# Altium footprint library 排针-排母.PcbLib: 215 footprints (part 6 of 14)
Each footprint in its own frame and in the unit in brackets; x right, y up, seen from the top. Pads: shape width x height; smd on the part's side, far side on the other; paste and mask are expansions set on the pad; w line width, h text height; cw(c..) or ccw(c..) is an arc to the next point about the centre after c.
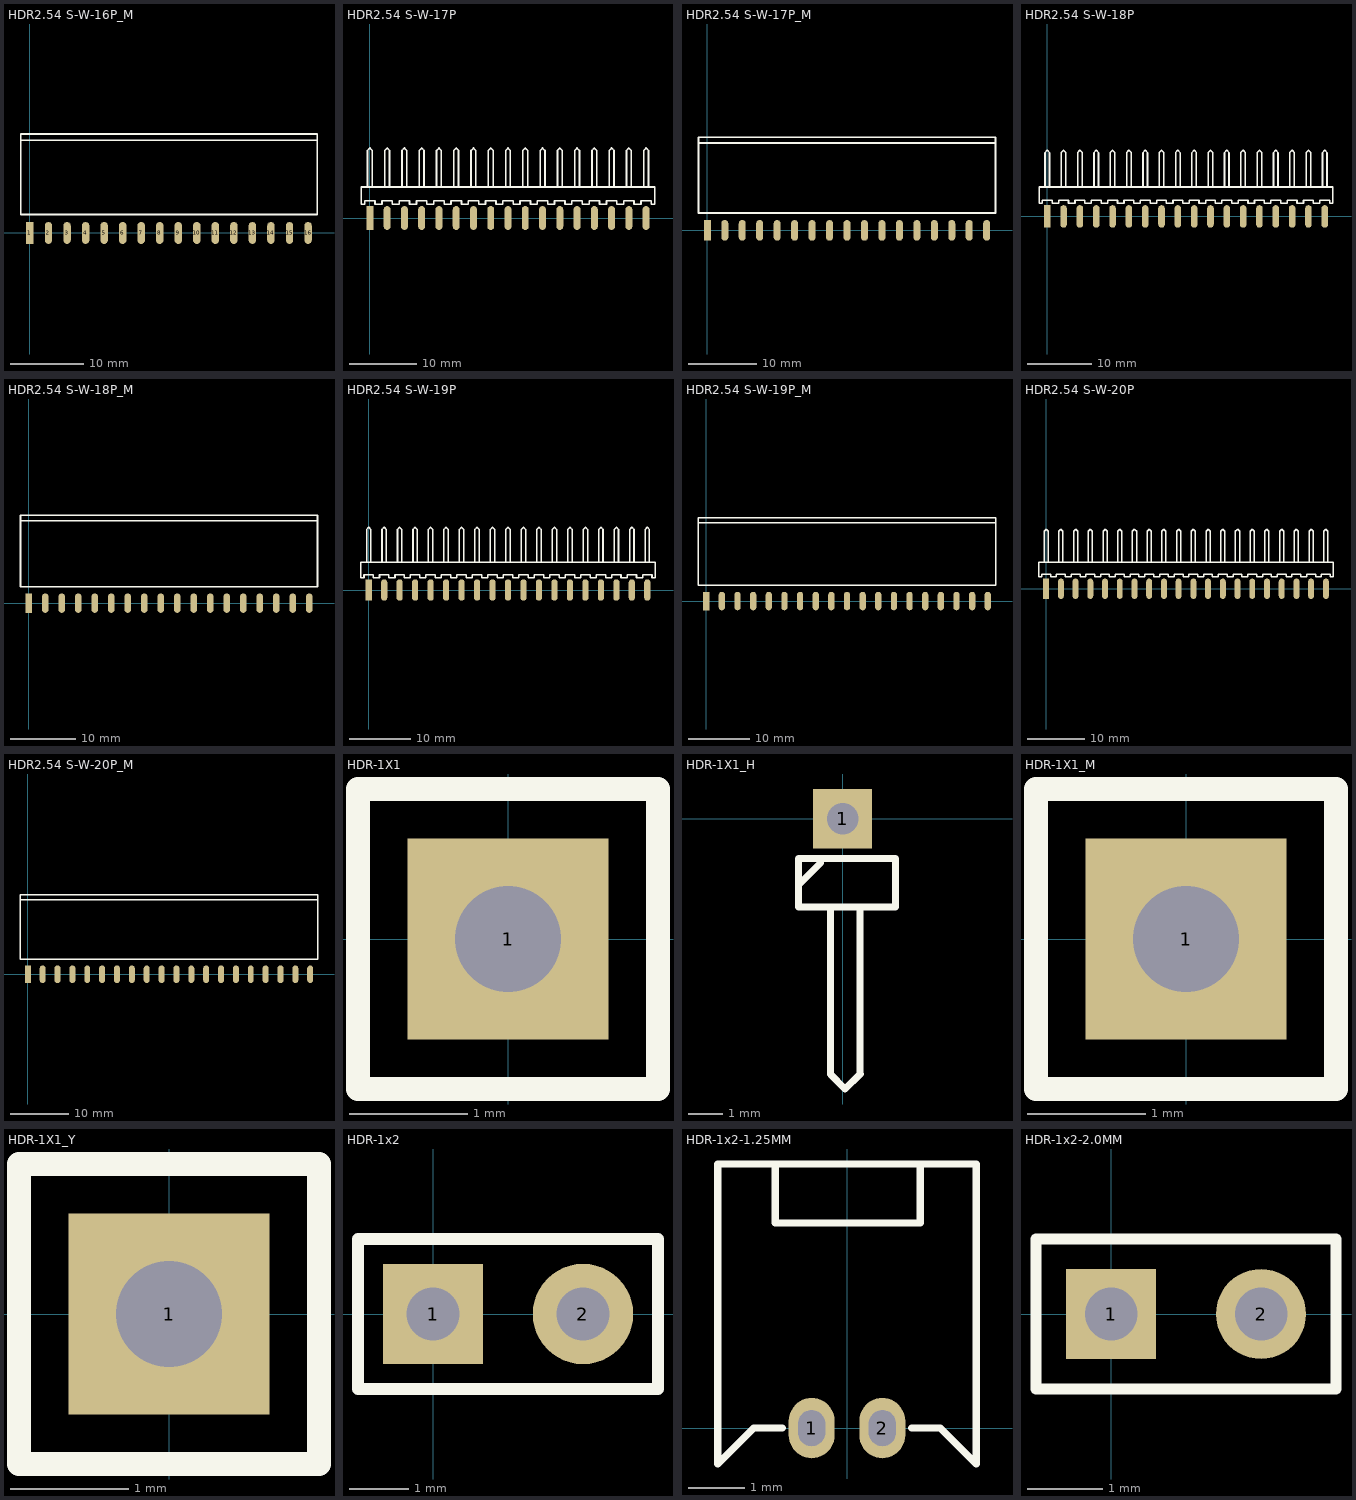
[diagram p5: the footprints below, top view; thin cyan lines are the x and y axes]

## HDR2.54 S-W-16P_M [mm] "16P卧式贴片排母2.54"
pads (16):
  rect 1.02x3 smd: 1(0,0)
  oval 1.02x3 smd: 2(2.54,0) 3(5.08,0) 4(7.62,0) 5(10.16,0) 6(12.7,0) 7(15.24,0) 8(17.78,0) 9(20.32,0) 10(22.86,0) 11(25.4,0) 12(27.94,0) 13(30.48,0) 14(33.02,0) 15(35.56,0) 16(38.1,0)
Top Overlay:
  lines w0.254: -1.27,12.7 1.27,12.7 3.81,12.7 6.35,12.7 8.89,12.7 11.43,12.7 13.97,12.7 16.51,12.7 19.05,12.7 21.59,12.7 24.13,12.7 26.67,12.7 29.21,12.7 31.75,12.7 34.29,12.7 36.83,12.7 39.37,12.7 ; -1.27,2.54 -1.27,13.54 1.27,13.54 3.81,13.54 6.35,13.54 8.89,13.54 11.43,13.54 13.97,13.54 16.51,13.54 19.05,13.54 21.59,13.54 24.13,13.54 26.67,13.54 29.21,13.54 31.75,13.54 34.29,13.54 36.83,13.54 39.37,13.54 39.37,2.54 36.83,2.54 34.29,2.54 31.75,2.54 29.21,2.54 26.67,2.54 24.13,2.54 21.59,2.54 19.05,2.54 16.51,2.54 13.97,2.54 11.43,2.54 8.89,2.54 6.35,2.54 3.81,2.54 1.27,2.54 -1.27,2.54
3D body "HDR2.54 S-W-1P_M.STEP": height 2.54, standoff -0.01, extent 13.97,-0.43 16.51,13.54
3D body "HDR2.54 S-W-1P_M.STEP": height 2.54, standoff -0.01, extent 11.43,-0.43 13.97,13.54
3D body "HDR2.54 S-W-1P_M.STEP": height 2.54, standoff -0.01, extent 8.89,-0.43 11.43,13.54
3D body "HDR2.54 S-W-1P_M.STEP": height 2.54, standoff -0.01, extent 6.35,-0.43 8.89,13.54
3D body "HDR2.54 S-W-1P_M.STEP": height 2.54, standoff -0.01, extent 3.81,-0.43 6.35,13.54
3D body "HDR2.54 S-W-1P_M.STEP": height 2.54, standoff -0.01, extent 1.27,-0.43 3.81,13.54
3D body "HDR2.54 S-W-1P_M.STEP": height 2.54, standoff -0.01, extent -1.27,-0.43 1.27,13.54
3D body "HDR2.54 S-W-1P_M.STEP": height 2.54, standoff -0.01, extent 16.51,-0.43 19.05,13.54
3D body "HDR2.54 S-W-1P_M.STEP": height 2.54, standoff -0.01, extent 19.05,-0.43 21.59,13.54
3D body "HDR2.54 S-W-1P_M.STEP": height 2.54, standoff -0.01, extent 21.59,-0.43 24.13,13.54
3D body "HDR2.54 S-W-1P_M.STEP": height 2.54, standoff -0.01, extent 24.13,-0.43 26.67,13.54
3D body "HDR2.54 S-W-1P_M.STEP": height 2.54, standoff -0.01, extent 26.67,-0.43 29.21,13.54
3D body "HDR2.54 S-W-1P_M.STEP": height 2.54, standoff -0.01, extent 29.21,-0.43 31.75,13.54
3D body "HDR2.54 S-W-1P_M.STEP": height 2.54, standoff -0.01, extent 31.75,-0.43 34.29,13.54
3D body "HDR2.54 S-W-1P_M.STEP": height 2.54, standoff -0.01, extent 34.29,-0.43 36.83,13.54
3D body "HDR2.54 S-W-1P_M.STEP": height 2.54, standoff -0.01, extent 36.83,-0.43 39.37,13.54

## HDR2.54 S-W-17P [mm] "17P卧式贴片排针2.54"
pads (17):
  rect 1.02x3.5 smd: 1(0,0)
  oval 1.02x3.5 smd: 2(2.54,0) 3(5.08,0) 4(7.62,0) 5(10.16,0) 6(12.7,0) 7(15.24,0) 8(17.78,0) 9(20.32,0) 10(22.86,0) 11(25.4,0) 12(27.94,0) 13(30.48,0) 14(33.02,0) 15(35.56,0) 16(38.1,0) 17(40.64,0)
Top Overlay:
  drawing of 223 lines, arcs and shapes, not listed
3D body "HDR2.54 S-W-1P.STEP": height 2.54, standoff -0.01, extent 31.75,-0.76 34.29,10.34
3D body "HDR2.54 S-W-1P.STEP": height 2.54, standoff -0.01, extent 8.89,-0.76 11.43,10.34
3D body "HDR2.54 S-W-1P.STEP": height 2.54, standoff -0.01, extent 6.35,-0.76 8.89,10.34
3D body "HDR2.54 S-W-1P.STEP": height 2.54, standoff -0.01, extent 3.81,-0.76 6.35,10.34
3D body "HDR2.54 S-W-1P.STEP": height 2.54, standoff -0.01, extent 1.27,-0.76 3.81,10.34
3D body "HDR2.54 S-W-1P.STEP": height 2.54, standoff -0.01, extent -1.27,-0.76 1.27,10.34
3D body "HDR2.54 S-W-1P.STEP": height 2.54, standoff -0.01, extent 11.43,-0.76 13.97,10.34
3D body "HDR2.54 S-W-1P.STEP": height 2.54, standoff -0.01, extent 13.97,-0.76 16.51,10.34
3D body "HDR2.54 S-W-1P.STEP": height 2.54, standoff -0.01, extent 16.51,-0.76 19.05,10.34
3D body "HDR2.54 S-W-1P.STEP": height 2.54, standoff -0.01, extent 19.05,-0.76 21.59,10.34
3D body "HDR2.54 S-W-1P.STEP": height 2.54, standoff -0.01, extent 21.59,-0.76 24.13,10.34
3D body "HDR2.54 S-W-1P.STEP": height 2.54, standoff -0.01, extent 24.13,-0.76 26.67,10.34
3D body "HDR2.54 S-W-1P.STEP": height 2.54, standoff -0.01, extent 26.67,-0.76 29.21,10.34
3D body "HDR2.54 S-W-1P.STEP": height 2.54, standoff -0.01, extent 29.21,-0.76 31.75,10.34
3D body "HDR2.54 S-W-1P.STEP": height 2.54, standoff -0.01, extent 34.29,-0.76 36.83,10.34
3D body "HDR2.54 S-W-1P.STEP": height 2.54, standoff -0.01, extent 36.83,-0.76 39.37,10.34
3D body "HDR2.54 S-W-1P.STEP": height 2.54, standoff -0.01, extent 39.37,-0.76 41.91,10.34

## HDR2.54 S-W-17P_M [mm] "17P卧式贴片排母2.54"
pads (17):
  rect 1.02x3 smd: 1(0,0)
  oval 1.02x3 smd: 2(2.54,0) 3(5.08,0) 4(7.62,0) 5(10.16,0) 6(12.7,0) 7(15.24,0) 8(17.78,0) 9(20.32,0) 10(22.86,0) 11(25.4,0) 12(27.94,0) 13(30.48,0) 14(33.02,0) 15(35.56,0) 16(38.1,0) 17(40.64,0)
Top Overlay:
  lines w0.254: -1.27,12.7 1.27,12.7 3.81,12.7 6.35,12.7 8.89,12.7 11.43,12.7 13.97,12.7 16.51,12.7 19.05,12.7 21.59,12.7 24.13,12.7 26.67,12.7 29.21,12.7 31.75,12.7 34.29,12.7 36.83,12.7 39.37,12.7 41.91,12.7 ; -1.27,2.54 -1.27,13.54 1.27,13.54 3.81,13.54 6.35,13.54 8.89,13.54 11.43,13.54 13.97,13.54 16.51,13.54 19.05,13.54 21.59,13.54 24.13,13.54 26.67,13.54 29.21,13.54 31.75,13.54 34.29,13.54 36.83,13.54 39.37,13.54 41.91,13.54 41.91,2.54 39.37,2.54 36.83,2.54 34.29,2.54 31.75,2.54 29.21,2.54 26.67,2.54 24.13,2.54 21.59,2.54 19.05,2.54 16.51,2.54 13.97,2.54 11.43,2.54 8.89,2.54 6.35,2.54 3.81,2.54 1.27,2.54 -1.27,2.54
3D body "HDR2.54 S-W-1P_M.STEP": height 2.54, standoff -0.01, extent 13.97,-0.43 16.51,13.54
3D body "HDR2.54 S-W-1P_M.STEP": height 2.54, standoff -0.01, extent 11.43,-0.43 13.97,13.54
3D body "HDR2.54 S-W-1P_M.STEP": height 2.54, standoff -0.01, extent 8.89,-0.43 11.43,13.54
3D body "HDR2.54 S-W-1P_M.STEP": height 2.54, standoff -0.01, extent 6.35,-0.43 8.89,13.54
3D body "HDR2.54 S-W-1P_M.STEP": height 2.54, standoff -0.01, extent 3.81,-0.43 6.35,13.54
3D body "HDR2.54 S-W-1P_M.STEP": height 2.54, standoff -0.01, extent 1.27,-0.43 3.81,13.54
3D body "HDR2.54 S-W-1P_M.STEP": height 2.54, standoff -0.01, extent -1.27,-0.43 1.27,13.54
3D body "HDR2.54 S-W-1P_M.STEP": height 2.54, standoff -0.01, extent 16.51,-0.43 19.05,13.54
3D body "HDR2.54 S-W-1P_M.STEP": height 2.54, standoff -0.01, extent 19.05,-0.43 21.59,13.54
3D body "HDR2.54 S-W-1P_M.STEP": height 2.54, standoff -0.01, extent 21.59,-0.43 24.13,13.54
3D body "HDR2.54 S-W-1P_M.STEP": height 2.54, standoff -0.01, extent 24.13,-0.43 26.67,13.54
3D body "HDR2.54 S-W-1P_M.STEP": height 2.54, standoff -0.01, extent 26.67,-0.43 29.21,13.54
3D body "HDR2.54 S-W-1P_M.STEP": height 2.54, standoff -0.01, extent 29.21,-0.43 31.75,13.54
3D body "HDR2.54 S-W-1P_M.STEP": height 2.54, standoff -0.01, extent 31.75,-0.43 34.29,13.54
3D body "HDR2.54 S-W-1P_M.STEP": height 2.54, standoff -0.01, extent 34.29,-0.43 36.83,13.54
3D body "HDR2.54 S-W-1P_M.STEP": height 2.54, standoff -0.01, extent 36.83,-0.43 39.37,13.54
3D body "HDR2.54 S-W-1P_M.STEP": height 2.54, standoff -0.01, extent 39.37,-0.43 41.91,13.54

## HDR2.54 S-W-18P [mm] "18P卧式贴片排针2.54"
pads (18):
  rect 1.02x3.5 smd: 1(0,0)
  oval 1.02x3.5 smd: 2(2.54,0) 3(5.08,0) 4(7.62,0) 5(10.16,0) 6(12.7,0) 7(15.24,0) 8(17.78,0) 9(20.32,0) 10(22.86,0) 11(25.4,0) 12(27.94,0) 13(30.48,0) 14(33.02,0) 15(35.56,0) 16(38.1,0) 17(40.64,0) 18(43.18,0)
Top Overlay:
  drawing of 236 lines, arcs and shapes, not listed
3D body "HDR2.54 S-W-1P.STEP": height 2.54, standoff -0.01, extent 41.91,-0.76 44.45,10.34
3D body "HDR2.54 S-W-1P.STEP": height 2.54, standoff -0.01, extent 39.37,-0.76 41.91,10.34
3D body "HDR2.54 S-W-1P.STEP": height 2.54, standoff -0.01, extent 36.83,-0.76 39.37,10.34
3D body "HDR2.54 S-W-1P.STEP": height 2.54, standoff -0.01, extent 34.29,-0.76 36.83,10.34
3D body "HDR2.54 S-W-1P.STEP": height 2.54, standoff -0.01, extent 29.21,-0.76 31.75,10.34
3D body "HDR2.54 S-W-1P.STEP": height 2.54, standoff -0.01, extent 26.67,-0.76 29.21,10.34
3D body "HDR2.54 S-W-1P.STEP": height 2.54, standoff -0.01, extent 24.13,-0.76 26.67,10.34
3D body "HDR2.54 S-W-1P.STEP": height 2.54, standoff -0.01, extent 21.59,-0.76 24.13,10.34
3D body "HDR2.54 S-W-1P.STEP": height 2.54, standoff -0.01, extent 19.05,-0.76 21.59,10.34
3D body "HDR2.54 S-W-1P.STEP": height 2.54, standoff -0.01, extent 16.51,-0.76 19.05,10.34
3D body "HDR2.54 S-W-1P.STEP": height 2.54, standoff -0.01, extent 13.97,-0.76 16.51,10.34
3D body "HDR2.54 S-W-1P.STEP": height 2.54, standoff -0.01, extent 11.43,-0.76 13.97,10.34
3D body "HDR2.54 S-W-1P.STEP": height 2.54, standoff -0.01, extent -1.27,-0.76 1.27,10.34
3D body "HDR2.54 S-W-1P.STEP": height 2.54, standoff -0.01, extent 1.27,-0.76 3.81,10.34
3D body "HDR2.54 S-W-1P.STEP": height 2.54, standoff -0.01, extent 3.81,-0.76 6.35,10.34
3D body "HDR2.54 S-W-1P.STEP": height 2.54, standoff -0.01, extent 6.35,-0.76 8.89,10.34
3D body "HDR2.54 S-W-1P.STEP": height 2.54, standoff -0.01, extent 8.89,-0.76 11.43,10.34
3D body "HDR2.54 S-W-1P.STEP": height 2.54, standoff -0.01, extent 31.75,-0.76 34.29,10.34

## HDR2.54 S-W-18P_M [mm] "18P卧式贴片排母2.54"
pads (18):
  rect 1.02x3 smd: 1(0,0)
  oval 1.02x3 smd: 2(2.54,0) 3(5.08,0) 4(7.62,0) 5(10.16,0) 6(12.7,0) 7(15.24,0) 8(17.78,0) 9(20.32,0) 10(22.86,0) 11(25.4,0) 12(27.94,0) 13(30.48,0) 14(33.02,0) 15(35.56,0) 16(38.1,0) 17(40.64,0) 18(43.18,0)
Top Overlay:
  lines w0.254: -1.27,12.7 1.27,12.7 3.81,12.7 6.35,12.7 8.89,12.7 11.43,12.7 13.97,12.7 16.51,12.7 19.05,12.7 21.59,12.7 24.13,12.7 26.67,12.7 29.21,12.7 31.75,12.7 34.29,12.7 36.83,12.7 39.37,12.7 41.91,12.7 44.45,12.7 ; -1.27,2.54 1.27,2.54 3.81,2.54 6.35,2.54 8.89,2.54 11.43,2.54 13.97,2.54 16.51,2.54 19.05,2.54 21.59,2.54 24.13,2.54 26.67,2.54 29.21,2.54 31.75,2.54 34.29,2.54 36.83,2.54 39.37,2.54 41.91,2.54 44.45,2.54 44.45,13.54 41.91,13.54 39.37,13.54 36.83,13.54 34.29,13.54 31.75,13.54 29.21,13.54 26.67,13.54 24.13,13.54 21.59,13.54 19.05,13.54 16.51,13.54 13.97,13.54 11.43,13.54 8.89,13.54 6.35,13.54 3.81,13.54 1.27,13.54 -1.27,13.54 -1.27,2.54
3D body "HDR2.54 S-W-1P_M.STEP": height 2.54, standoff -0.01, extent 41.91,-0.43 44.45,13.54
3D body "HDR2.54 S-W-1P_M.STEP": height 2.54, standoff -0.01, extent 39.37,-0.43 41.91,13.54
3D body "HDR2.54 S-W-1P_M.STEP": height 2.54, standoff -0.01, extent 36.83,-0.43 39.37,13.54
3D body "HDR2.54 S-W-1P_M.STEP": height 2.54, standoff -0.01, extent 34.29,-0.43 36.83,13.54
3D body "HDR2.54 S-W-1P_M.STEP": height 2.54, standoff -0.01, extent 31.75,-0.43 34.29,13.54
3D body "HDR2.54 S-W-1P_M.STEP": height 2.54, standoff -0.01, extent 29.21,-0.43 31.75,13.54
3D body "HDR2.54 S-W-1P_M.STEP": height 2.54, standoff -0.01, extent 26.67,-0.43 29.21,13.54
3D body "HDR2.54 S-W-1P_M.STEP": height 2.54, standoff -0.01, extent 24.13,-0.43 26.67,13.54
3D body "HDR2.54 S-W-1P_M.STEP": height 2.54, standoff -0.01, extent 21.59,-0.43 24.13,13.54
3D body "HDR2.54 S-W-1P_M.STEP": height 2.54, standoff -0.01, extent 19.05,-0.43 21.59,13.54
3D body "HDR2.54 S-W-1P_M.STEP": height 2.54, standoff -0.01, extent 16.51,-0.43 19.05,13.54
3D body "HDR2.54 S-W-1P_M.STEP": height 2.54, standoff -0.01, extent -1.27,-0.43 1.27,13.54
3D body "HDR2.54 S-W-1P_M.STEP": height 2.54, standoff -0.01, extent 1.27,-0.43 3.81,13.54
3D body "HDR2.54 S-W-1P_M.STEP": height 2.54, standoff -0.01, extent 3.81,-0.43 6.35,13.54
3D body "HDR2.54 S-W-1P_M.STEP": height 2.54, standoff -0.01, extent 6.35,-0.43 8.89,13.54
3D body "HDR2.54 S-W-1P_M.STEP": height 2.54, standoff -0.01, extent 8.89,-0.43 11.43,13.54
3D body "HDR2.54 S-W-1P_M.STEP": height 2.54, standoff -0.01, extent 11.43,-0.43 13.97,13.54
3D body "HDR2.54 S-W-1P_M.STEP": height 2.54, standoff -0.01, extent 13.97,-0.43 16.51,13.54

## HDR2.54 S-W-19P [mm] "19P卧式贴片排针2.54"
pads (19):
  rect 1.02x3.5 smd: 1(0,0)
  oval 1.02x3.5 smd: 2(2.54,0) 3(5.08,0) 4(7.62,0) 5(10.16,0) 6(12.7,0) 7(15.24,0) 8(17.78,0) 9(20.32,0) 10(22.86,0) 11(25.4,0) 12(27.94,0) 13(30.48,0) 14(33.02,0) 15(35.56,0) 16(38.1,0) 17(40.64,0) 18(43.18,0) 19(45.72,0)
Top Overlay:
  drawing of 249 lines, arcs and shapes, not listed
3D body "HDR2.54 S-W-1P.STEP": height 2.54, standoff -0.01, extent 31.75,-0.76 34.29,10.34
3D body "HDR2.54 S-W-1P.STEP": height 2.54, standoff -0.01, extent 8.89,-0.76 11.43,10.34
3D body "HDR2.54 S-W-1P.STEP": height 2.54, standoff -0.01, extent 6.35,-0.76 8.89,10.34
3D body "HDR2.54 S-W-1P.STEP": height 2.54, standoff -0.01, extent 3.81,-0.76 6.35,10.34
3D body "HDR2.54 S-W-1P.STEP": height 2.54, standoff -0.01, extent 1.27,-0.76 3.81,10.34
3D body "HDR2.54 S-W-1P.STEP": height 2.54, standoff -0.01, extent -1.27,-0.76 1.27,10.34
3D body "HDR2.54 S-W-1P.STEP": height 2.54, standoff -0.01, extent 11.43,-0.76 13.97,10.34
3D body "HDR2.54 S-W-1P.STEP": height 2.54, standoff -0.01, extent 13.97,-0.76 16.51,10.34
3D body "HDR2.54 S-W-1P.STEP": height 2.54, standoff -0.01, extent 16.51,-0.76 19.05,10.34
3D body "HDR2.54 S-W-1P.STEP": height 2.54, standoff -0.01, extent 19.05,-0.76 21.59,10.34
3D body "HDR2.54 S-W-1P.STEP": height 2.54, standoff -0.01, extent 21.59,-0.76 24.13,10.34
3D body "HDR2.54 S-W-1P.STEP": height 2.54, standoff -0.01, extent 24.13,-0.76 26.67,10.34
3D body "HDR2.54 S-W-1P.STEP": height 2.54, standoff -0.01, extent 26.67,-0.76 29.21,10.34
3D body "HDR2.54 S-W-1P.STEP": height 2.54, standoff -0.01, extent 29.21,-0.76 31.75,10.34
3D body "HDR2.54 S-W-1P.STEP": height 2.54, standoff -0.01, extent 34.29,-0.76 36.83,10.34
3D body "HDR2.54 S-W-1P.STEP": height 2.54, standoff -0.01, extent 36.83,-0.76 39.37,10.34
3D body "HDR2.54 S-W-1P.STEP": height 2.54, standoff -0.01, extent 39.37,-0.76 41.91,10.34
3D body "HDR2.54 S-W-1P.STEP": height 2.54, standoff -0.01, extent 41.91,-0.76 44.45,10.34
3D body "HDR2.54 S-W-1P.STEP": height 2.54, standoff -0.01, extent 44.45,-0.76 46.99,10.34

## HDR2.54 S-W-19P_M [mm] "19P卧式贴片排母2.54"
pads (19):
  rect 1.02x3 smd: 1(0,0)
  oval 1.02x3 smd: 2(2.54,0) 3(5.08,0) 4(7.62,0) 5(10.16,0) 6(12.7,0) 7(15.24,0) 8(17.78,0) 9(20.32,0) 10(22.86,0) 11(25.4,0) 12(27.94,0) 13(30.48,0) 14(33.02,0) 15(35.56,0) 16(38.1,0) 17(40.64,0) 18(43.18,0) 19(45.72,0)
Top Overlay:
  lines w0.254: -1.27,12.7 1.27,12.7 3.81,12.7 6.35,12.7 8.89,12.7 11.43,12.7 13.97,12.7 16.51,12.7 19.05,12.7 21.59,12.7 24.13,12.7 26.67,12.7 29.21,12.7 31.75,12.7 34.29,12.7 36.83,12.7 39.37,12.7 41.91,12.7 44.45,12.7 46.99,12.7 ; -1.27,2.54 -1.27,13.54 1.27,13.54 3.81,13.54 6.35,13.54 8.89,13.54 11.43,13.54 13.97,13.54 16.51,13.54 19.05,13.54 21.59,13.54 24.13,13.54 26.67,13.54 29.21,13.54 31.75,13.54 34.29,13.54 36.83,13.54 39.37,13.54 41.91,13.54 44.45,13.54 46.99,13.54 46.99,2.54 44.45,2.54 41.91,2.54 39.37,2.54 36.83,2.54 34.29,2.54 31.75,2.54 29.21,2.54 26.67,2.54 24.13,2.54 21.59,2.54 19.05,2.54 16.51,2.54 13.97,2.54 11.43,2.54 8.89,2.54 6.35,2.54 3.81,2.54 1.27,2.54 -1.27,2.54
3D body "HDR2.54 S-W-1P_M.STEP": height 2.54, standoff -0.01, extent 13.97,-0.43 16.51,13.54
3D body "HDR2.54 S-W-1P_M.STEP": height 2.54, standoff -0.01, extent 11.43,-0.43 13.97,13.54
3D body "HDR2.54 S-W-1P_M.STEP": height 2.54, standoff -0.01, extent 8.89,-0.43 11.43,13.54
3D body "HDR2.54 S-W-1P_M.STEP": height 2.54, standoff -0.01, extent 6.35,-0.43 8.89,13.54
3D body "HDR2.54 S-W-1P_M.STEP": height 2.54, standoff -0.01, extent 3.81,-0.43 6.35,13.54
3D body "HDR2.54 S-W-1P_M.STEP": height 2.54, standoff -0.01, extent 1.27,-0.43 3.81,13.54
3D body "HDR2.54 S-W-1P_M.STEP": height 2.54, standoff -0.01, extent -1.27,-0.43 1.27,13.54
3D body "HDR2.54 S-W-1P_M.STEP": height 2.54, standoff -0.01, extent 16.51,-0.43 19.05,13.54
3D body "HDR2.54 S-W-1P_M.STEP": height 2.54, standoff -0.01, extent 19.05,-0.43 21.59,13.54
3D body "HDR2.54 S-W-1P_M.STEP": height 2.54, standoff -0.01, extent 21.59,-0.43 24.13,13.54
3D body "HDR2.54 S-W-1P_M.STEP": height 2.54, standoff -0.01, extent 24.13,-0.43 26.67,13.54
3D body "HDR2.54 S-W-1P_M.STEP": height 2.54, standoff -0.01, extent 26.67,-0.43 29.21,13.54
3D body "HDR2.54 S-W-1P_M.STEP": height 2.54, standoff -0.01, extent 29.21,-0.43 31.75,13.54
3D body "HDR2.54 S-W-1P_M.STEP": height 2.54, standoff -0.01, extent 31.75,-0.43 34.29,13.54
3D body "HDR2.54 S-W-1P_M.STEP": height 2.54, standoff -0.01, extent 34.29,-0.43 36.83,13.54
3D body "HDR2.54 S-W-1P_M.STEP": height 2.54, standoff -0.01, extent 36.83,-0.43 39.37,13.54
3D body "HDR2.54 S-W-1P_M.STEP": height 2.54, standoff -0.01, extent 39.37,-0.43 41.91,13.54
3D body "HDR2.54 S-W-1P_M.STEP": height 2.54, standoff -0.01, extent 41.91,-0.43 44.45,13.54
3D body "HDR2.54 S-W-1P_M.STEP": height 2.54, standoff -0.01, extent 44.45,-0.43 46.99,13.54

## HDR2.54 S-W-20P [mm] "20P卧式贴片排针2.54"
pads (20):
  rect 1.02x3.5 smd: 1(0,0)
  oval 1.02x3.5 smd: 2(2.54,0) 3(5.08,0) 4(7.62,0) 5(10.16,0) 6(12.7,0) 7(15.24,0) 8(17.78,0) 9(20.32,0) 10(22.86,0) 11(25.4,0) 12(27.94,0) 13(30.48,0) 14(33.02,0) 15(35.56,0) 16(38.1,0) 17(40.64,0) 18(43.18,0) 19(45.72,0) 20(48.26,0)
Top Overlay:
  drawing of 262 lines, arcs and shapes, not listed
3D body "HDR2.54 S-W-1P.STEP": height 2.54, standoff -0.01, extent 44.45,-0.76 46.99,10.34
3D body "HDR2.54 S-W-1P.STEP": height 2.54, standoff -0.01, extent 41.91,-0.76 44.45,10.34
3D body "HDR2.54 S-W-1P.STEP": height 2.54, standoff -0.01, extent 39.37,-0.76 41.91,10.34
3D body "HDR2.54 S-W-1P.STEP": height 2.54, standoff -0.01, extent 36.83,-0.76 39.37,10.34
3D body "HDR2.54 S-W-1P.STEP": height 2.54, standoff -0.01, extent 34.29,-0.76 36.83,10.34
3D body "HDR2.54 S-W-1P.STEP": height 2.54, standoff -0.01, extent 29.21,-0.76 31.75,10.34
3D body "HDR2.54 S-W-1P.STEP": height 2.54, standoff -0.01, extent 26.67,-0.76 29.21,10.34
3D body "HDR2.54 S-W-1P.STEP": height 2.54, standoff -0.01, extent 24.13,-0.76 26.67,10.34
3D body "HDR2.54 S-W-1P.STEP": height 2.54, standoff -0.01, extent 21.59,-0.76 24.13,10.34
3D body "HDR2.54 S-W-1P.STEP": height 2.54, standoff -0.01, extent 19.05,-0.76 21.59,10.34
3D body "HDR2.54 S-W-1P.STEP": height 2.54, standoff -0.01, extent 16.51,-0.76 19.05,10.34
3D body "HDR2.54 S-W-1P.STEP": height 2.54, standoff -0.01, extent 13.97,-0.76 16.51,10.34
3D body "HDR2.54 S-W-1P.STEP": height 2.54, standoff -0.01, extent 11.43,-0.76 13.97,10.34
3D body "HDR2.54 S-W-1P.STEP": height 2.54, standoff -0.01, extent -1.27,-0.76 1.27,10.34
3D body "HDR2.54 S-W-1P.STEP": height 2.54, standoff -0.01, extent 1.27,-0.76 3.81,10.34
3D body "HDR2.54 S-W-1P.STEP": height 2.54, standoff -0.01, extent 3.81,-0.76 6.35,10.34
3D body "HDR2.54 S-W-1P.STEP": height 2.54, standoff -0.01, extent 6.35,-0.76 8.89,10.34
3D body "HDR2.54 S-W-1P.STEP": height 2.54, standoff -0.01, extent 8.89,-0.76 11.43,10.34
3D body "HDR2.54 S-W-1P.STEP": height 2.54, standoff -0.01, extent 31.75,-0.76 34.29,10.34
3D body "HDR2.54 S-W-1P.STEP": height 2.54, standoff -0.01, extent 46.99,-0.76 49.53,10.34

## HDR2.54 S-W-20P_M [mm] "20P卧式贴片排母2.54"
pads (20):
  rect 1.02x3 smd: 1(0,0)
  oval 1.02x3 smd: 2(2.54,0) 3(5.08,0) 4(7.62,0) 5(10.16,0) 6(12.7,0) 7(15.24,0) 8(17.78,0) 9(20.32,0) 10(22.86,0) 11(25.4,0) 12(27.94,0) 13(30.48,0) 14(33.02,0) 15(35.56,0) 16(38.1,0) 17(40.64,0) 18(43.18,0) 19(45.72,0) 20(48.26,0)
Top Overlay:
  lines w0.254: -1.27,12.7 1.27,12.7 3.81,12.7 6.35,12.7 8.89,12.7 11.43,12.7 13.97,12.7 16.51,12.7 19.05,12.7 21.59,12.7 24.13,12.7 26.67,12.7 29.21,12.7 31.75,12.7 34.29,12.7 36.83,12.7 39.37,12.7 41.91,12.7 44.45,12.7 46.99,12.7 49.53,12.7 ; -1.27,2.54 -1.27,13.54 1.27,13.54 3.81,13.54 6.35,13.54 8.89,13.54 11.43,13.54 13.97,13.54 16.51,13.54 19.05,13.54 21.59,13.54 24.13,13.54 26.67,13.54 29.21,13.54 31.75,13.54 34.29,13.54 36.83,13.54 39.37,13.54 41.91,13.54 44.45,13.54 46.99,13.54 49.53,13.54 49.53,2.54 46.99,2.54 44.45,2.54 41.91,2.54 39.37,2.54 36.83,2.54 34.29,2.54 31.75,2.54 29.21,2.54 26.67,2.54 24.13,2.54 21.59,2.54 19.05,2.54 16.51,2.54 13.97,2.54 11.43,2.54 8.89,2.54 6.35,2.54 3.81,2.54 1.27,2.54 -1.27,2.54
3D body "HDR2.54 S-W-1P_M.STEP": height 2.54, standoff -0.01, extent 46.99,-0.43 49.53,13.54
3D body "HDR2.54 S-W-1P_M.STEP": height 2.54, standoff -0.01, extent 13.97,-0.43 16.51,13.54
3D body "HDR2.54 S-W-1P_M.STEP": height 2.54, standoff -0.01, extent 11.43,-0.43 13.97,13.54
3D body "HDR2.54 S-W-1P_M.STEP": height 2.54, standoff -0.01, extent 8.89,-0.43 11.43,13.54
3D body "HDR2.54 S-W-1P_M.STEP": height 2.54, standoff -0.01, extent 6.35,-0.43 8.89,13.54
3D body "HDR2.54 S-W-1P_M.STEP": height 2.54, standoff -0.01, extent 3.81,-0.43 6.35,13.54
3D body "HDR2.54 S-W-1P_M.STEP": height 2.54, standoff -0.01, extent 1.27,-0.43 3.81,13.54
3D body "HDR2.54 S-W-1P_M.STEP": height 2.54, standoff -0.01, extent -1.27,-0.43 1.27,13.54
3D body "HDR2.54 S-W-1P_M.STEP": height 2.54, standoff -0.01, extent 16.51,-0.43 19.05,13.54
3D body "HDR2.54 S-W-1P_M.STEP": height 2.54, standoff -0.01, extent 19.05,-0.43 21.59,13.54
3D body "HDR2.54 S-W-1P_M.STEP": height 2.54, standoff -0.01, extent 21.59,-0.43 24.13,13.54
3D body "HDR2.54 S-W-1P_M.STEP": height 2.54, standoff -0.01, extent 24.13,-0.43 26.67,13.54
3D body "HDR2.54 S-W-1P_M.STEP": height 2.54, standoff -0.01, extent 26.67,-0.43 29.21,13.54
3D body "HDR2.54 S-W-1P_M.STEP": height 2.54, standoff -0.01, extent 29.21,-0.43 31.75,13.54
3D body "HDR2.54 S-W-1P_M.STEP": height 2.54, standoff -0.01, extent 31.75,-0.43 34.29,13.54
3D body "HDR2.54 S-W-1P_M.STEP": height 2.54, standoff -0.01, extent 34.29,-0.43 36.83,13.54
3D body "HDR2.54 S-W-1P_M.STEP": height 2.54, standoff -0.01, extent 36.83,-0.43 39.37,13.54
3D body "HDR2.54 S-W-1P_M.STEP": height 2.54, standoff -0.01, extent 39.37,-0.43 41.91,13.54
3D body "HDR2.54 S-W-1P_M.STEP": height 2.54, standoff -0.01, extent 41.91,-0.43 44.45,13.54
3D body "HDR2.54 S-W-1P_M.STEP": height 2.54, standoff -0.01, extent 44.45,-0.43 46.99,13.54

## HDR-1X1 [mm] "排针，1脚"
pads (1):
  rect 1.7x1.7 hole 0.9: 1(0,0)
Top Overlay:
  lines w0.2: -1.27,-1.27 -1.27,1.27 1.27,1.27 1.27,-1.27 -1.27,-1.27
3D body "HDR2.54-1P.STEP": height 8.5, standoff -3, extent -1.27,-1.27 1.27,1.27

## HDR-1X1_H [mm] "弯脚排针，1脚"
pads (1):
  rect 1.7x1.7 hole 0.9: 1(0,0)
Top Overlay:
  lines w0.2: -1.27,-1.905 -0.635,-1.27 ; -0.348,-2.54 -0.348,-7.332 0.075,-7.755 0.499,-7.332 0.508,-7.323 ; 0.499,-7.323 0.499,-2.54 ; -1.27,-2.54 -1.27,-1.143 0.508,-1.143 1.524,-1.143 1.524,-2.54 -1.27,-2.54
3D body "HDR2.54-1P_H.STEP": height 4.85, standoff -3, extent -1.27,-7.77 1.27,1.27

## HDR-1X1_M [mm] "排母，1脚"
pads (1):
  rect 1.7x1.7 hole 0.9: 1(0,0)
Top Overlay:
  lines w0.2: -1.27,-1.27 -1.27,1.27 1.27,1.27 1.27,-1.27 -1.27,-1.27
3D body "HDR2.54-1P_M.STEP": height 8.5, standoff -3, extent -1.27,-1.27 1.27,1.27

## HDR-1X1_Y [mm] "圆孔排母，1脚"
pads (1):
  rect 1.7x1.7 hole 0.9: 1(0,0)
Top Overlay:
  lines w0.2: -1.27,-1.27 1.27,-1.27 1.27,1.27 -1.27,1.27 -1.27,-1.27
3D body "HDR-1P_Y.STEP": height 4.31, standoff -3, extent -1.27,-1.27 1.27,1.27

## HDR-1x2 [mm] "排针，2脚"
pads (2):
  rect 1.7x1.7 hole 0.9: 1(0,0)
  round 1.7 hole 0.9: 2(2.54,0)
Top Overlay:
  lines w0.2: -1.27,-1.27 3.81,-1.27 3.81,1.27 -1.27,1.27 -1.27,-1.27
3D body "HDR2.54-1P.STEP": height 8.5, standoff -3, extent -1.27,-1.27 1.27,1.27
3D body "HDR2.54-1P.STEP": height 8.5, standoff -3, extent 1.27,-1.27 3.81,1.27

## HDR-1x2-1.25MM [mil]
pads (2):
  oval 32x42 hole 19 slot 25 at 90 deg: 1(-24.61,0) 2(24.61,0)
Top Overlay:
  lines w5: -50,184 -50,143 51,143 51,184 ; -45,0 -65,0 -90,-25 -90,184 90,184 90,-25 65,0 45,0

## HDR-1x2-2.0MM [mm]
pads (2):
  rect 1.2x1.2 hole 0.7: 1(0,0)
  round 1.2 hole 0.7: 2(2,0)
Top Overlay:
  lines w0.152: -1,-1 3,-1 3,1 -1,1 -1,-1